# EAGLE library part FAN7390 (library Fairchild_By_element14_Batch_1)
High and Low side gate driver, 600v, 4.5A
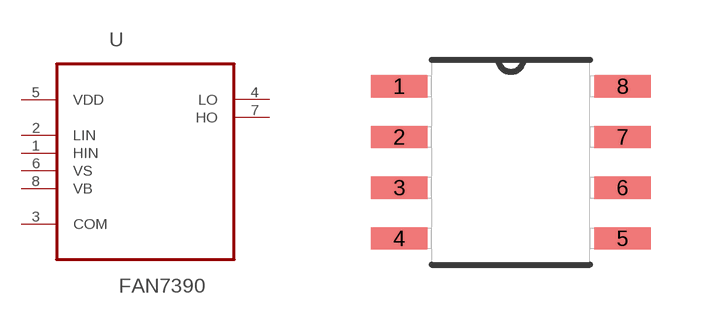
[diagram p384: symbol with the pads of SOP127P600X175-8N; footprint SOP127P600X175-8N]

Designator prefix -

## FAN7390 (P1I: o)  [SOP127P600X175-8N]
1  HIN  in
2  LIN  in
3  COM  pas
4  LO  out
5  VDD  pwr
6  VS  in
7  HO  out
8  VB  in

## Footprint SOP127P600X175-8N (pad centres in mm)
smd 1.422 x 0.559: 1 -2.794,1.905; 2 -2.794,0.635; 3 -2.794,-0.635; 4 -2.794,-1.905; 5 2.794,-1.905; 6 2.794,-0.635; 7 2.794,0.635; 8 2.794,1.905